# Altium footprint library WCAP-CSGP.PcbLib: 3 footprints
Each footprint in its own frame and in the unit in brackets; x right, y up, seen from the top. Pads: shape width x height; smd on the part's side, far side on the other; paste and mask are expansions set on the pad; w line width, h text height; cw(c..) or ccw(c..) is an arc to the next point about the centre after c.
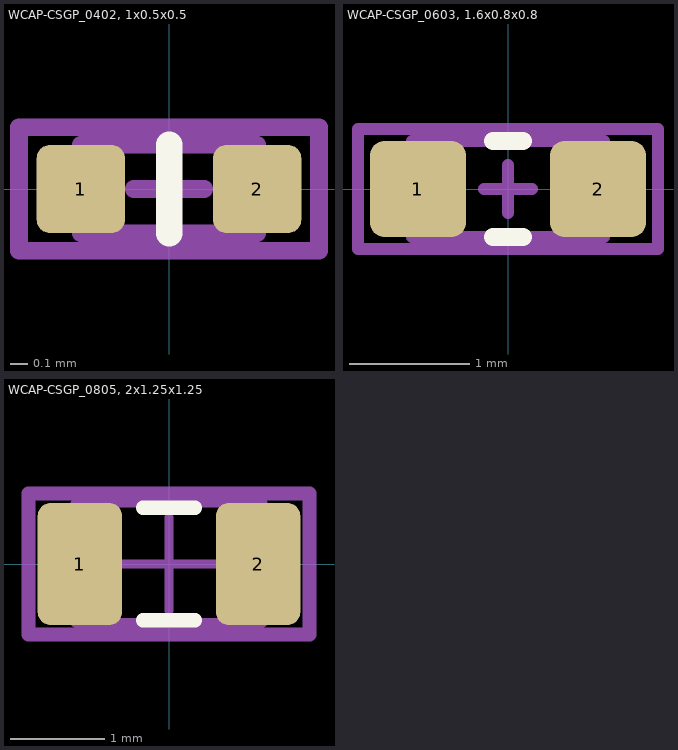
[diagram p0: the footprints below, top view; thin cyan lines are the x and y axes]

## WCAP-CSGP_0402, 1x0.5x0.5 [mm] "WCAP-CSGP Ceramic Capacitors, size 0402, body 1x0.5x0.5"
height 0.5
pads (2):
  rrect30% 0.5x0.5 smd: 1(-0.5,0) 2(0.5,0)
Top Overlay:
  lines w0.15: 0,-0.25 0,0.25
Mechanical 13:
  lines w0.1: -0.5,-0.25 -0.5,0.25 0.5,0.25 0.5,-0.25 -0.5,-0.25
Mechanical 15:
  lines w0.1: -0.2,0 0.2,0 ; 0,-0.2 0,0.2 ; -0.85,-0.35 0.85,-0.35 0.85,0.35 -0.85,0.35 -0.85,-0.35
Mechanical 17 (Mech17):
  text ".Designator" at -0.4,-0.2 h0.6
3D body "User Library-CAPC1005X___.STEP": height 0.52, standoff 0, extent -0.501,-0.258 0.499,0.262

## WCAP-CSGP_0603, 1.6x0.8x0.8 [mm] "WCAP-CSGP Ceramic Capacitors, size 0603, body 1.6x0.8x0.8"
height 0.8
pads (2):
  rrect30% 0.8x0.8 smd: 1(-0.75,0) 2(0.75,0)
Top Overlay:
  lines w0.15: -0.125,-0.4 0.125,-0.4 ; -0.125,0.4 0.125,0.4
Mechanical 13:
  lines w0.1: -0.8,-0.4 -0.8,0.4 0.8,0.4 0.8,-0.4 -0.8,-0.4
Mechanical 15:
  lines w0.1: -0.2,0 0.2,0 ; 0,-0.2 0,0.2 ; -1.25,-0.5 -1.25,0.5 1.25,0.5 1.25,-0.5 -1.25,-0.5
Mechanical 17 (Mech17):
  text ".Designator" at -0.65,-0.3 h1
3D body "User Library-0603(1608M) Cap.STEP": height 0.8, standoff 0.01, extent -1,-0.394 1,0.394

## WCAP-CSGP_0805, 2x1.25x1.25 [mm] "WCAP-CSGP Ceramic Capacitors, size 0805, body 2x1.25x1.25"
height 1.25
pads (2):
  rrect30% 0.9x1.3 smd: 1(-0.95,0) 2(0.95,0)
Top Overlay:
  lines w0.15: -0.275,-0.6 0.275,-0.6 ; -0.275,0.6 0.275,0.6
Mechanical 13:
  lines w0.1: -1,-0.625 -1,0.65 1,0.65 1,-0.625 -1,-0.625
Mechanical 15:
  lines w0.1: -0.5,0 0.5,0 ; 0,-0.5 0,0.5
  lines w0.15: -1.5,-0.75 1.5,-0.75 1.5,0.75 -1.5,0.75 -1.5,-0.75
Mechanical 17 (Mech17):
  text ".Designator" at -0.7,-0.3 h1
3D body "User Library-CAP0805-1.STEP": height 1.25, standoff 0, extent -1.002,-0.631 0.998,0.619